# Altium footprint library SOT95P280X145-5N.PcbLib: 1 footprints
Each footprint in its own frame and in the unit in brackets; x right, y up, seen from the top. Pads: shape width x height; smd on the part's side, far side on the other; paste and mask are expansions set on the pad; w line width, h text height; cw(c..) or ccw(c..) is an arc to the next point about the centre after c.
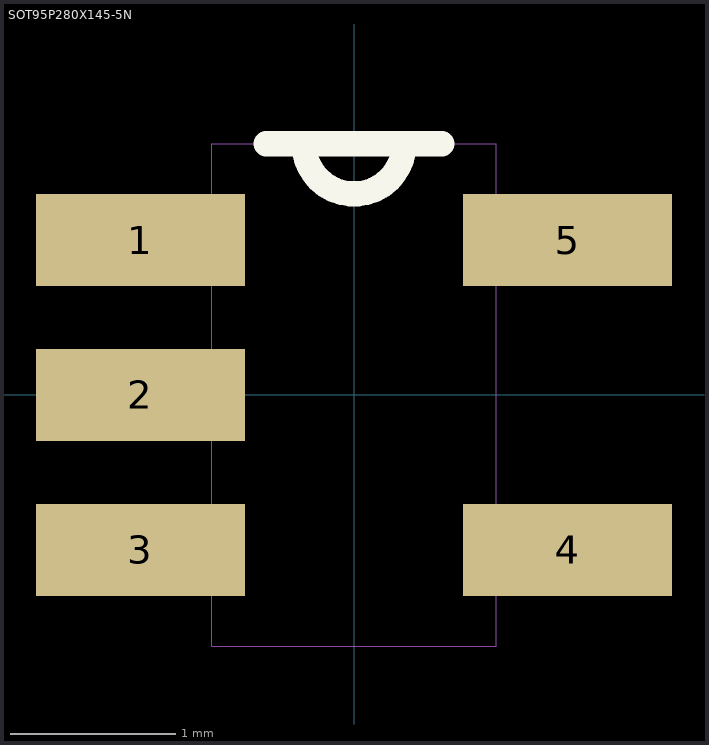
[diagram p0: the footprint, top view; thin cyan lines are the x and y axes]

## SOT95P280X145-5N [mil]
pads (5):
  rect 50x22 smd: 1(-51,37) 2(-51,0) 3(-51,-37) 4(51,-37) 5(51,37)
Top Overlay:
  lines w6: -21,60 -12,60 ; 21,60 12,60 ; -12,60 ccw(c0,60) 12,60 ; -12,60 12,60
Mechanical 13:
  lines w0: -34,-47 -59,-47 -59,-28 -34,-28 ; -34,-47 -34,-28 ; -34,-47 -34,-60 34,-60 34,-47 ; -34,-28 -34,-10 ; -34,-10 -59,-10 -59,10 -34,10 ; -34,-10 -34,10 ; -34,10 -34,28 ; -34,28 -59,28 -59,47 -34,47 ; -34,28 -34,47 ; -34,47 -34,60 -12,60 ; -12,60 ccw(c0,60) 12,60 ; -12,60 12,60 ; 12,60 34,60 34,47 ; 34,-47 59,-47 59,-28 34,-28 ; 34,-47 34,-28 ; 34,-28 34,28 ; 34,28 59,28 59,47 34,47 ; 34,28 34,47
3D body "SOT753.step": height 38.82, standoff -0.55, extent -56.07,-58.2 53.72,57.94